# EAGLE library part BIM1H (library HAB)
BiM1H VHF Narrow Band FM 500mW transceiver
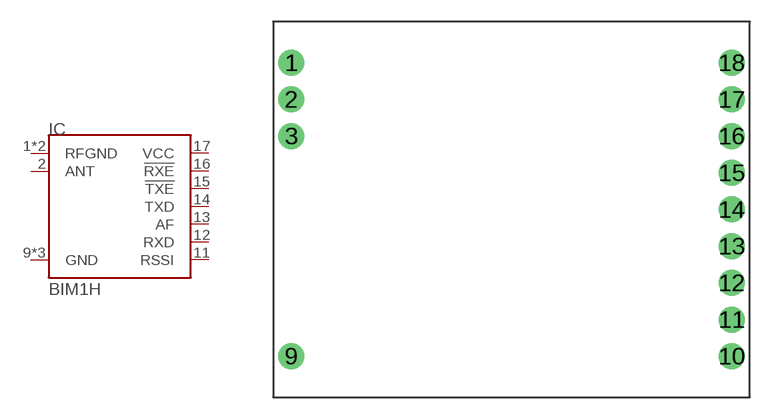
[diagram p24: symbol with the pads of BIM1H; footprint BIM1H]

Designator prefix IC

## BIM1H  [BIM1H]
1  RFGND  pwr
2  ANT  pas
3  RFGND  pwr
9  GND  pwr
10  GND  pwr
11  RSSI  out
12  RXD  out
13  AF  out
14  TXD  in
15  !TXE!  oc
16  !RXE!  oc
17  VCC  pwr
18  GND  pwr

## Footprint BIM1H (pad centres in mm)
BiM1H VHF Narrow Band FM 500mW transceiver
drill 1.2: 1 -15.24,10.16; 2 -15.24,7.62; 3 -15.24,5.08; 9 -15.24,-10.16; 10 15.24,-10.16; 11 15.24,-7.62; 12 15.24,-5.08; 13 15.24,-2.54; 14 15.24,0; 15 15.24,2.54; 16 15.24,5.08; 17 15.24,7.62; 18 15.24,10.16